# Altium schematic symbol library C0805C472KDRACTU.SchLib: 1 symbol
Pins are listed as number, name and electrical type; pins without a type are passive.

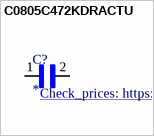
[diagram p0: symbol C0805C472KDRACTU]

## C0805C472KDRACTU
designator C?
4700pF Â±10% 1000V (1kV) Ceramic Capacitor X7R 0805 (2012 Metric); MP: C0805C472KDRACTU; MF: KEMET; Package: 2012 KEMET; DigiKey-Purchase-URL: https://snapeda.com/shop?store=DigiKey&id=1765406; Price: None; Availability: Good; Mouser-Purchase-URL: https://snapeda.com/shop?store=Mouser&id=1765406; SnapEDA_Link: https://www.snapeda.com/parts/C0805C472KDRACTU/KEMET/view-part/1765406/?ref=snap; Value: *; Check_prices: https://www.snapeda.com/parts/C0805C472KDRACTU/KEMET/view-part/1765406/?ref=eda
footprint CAPC2012X140N
pins: 1, 2